# EAGLE library part USD-SOCKET-SPI (library TinWhiskers)
microSD Socket Push-push type uSD socket. Schematic element and footprint production proven. Spark Fun Electronics SKU : PRT-00127. tDoc lines correctly indicate media card edge positions when inserting (unlocked, locked, depressed).
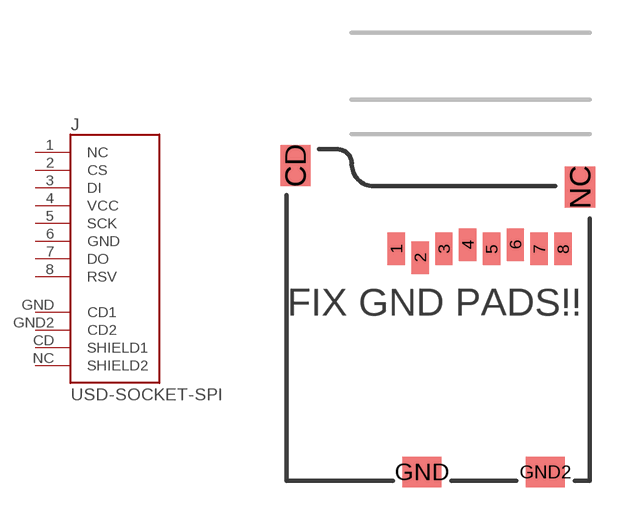
[diagram p12: symbol with the pads of MICRO-SD-SOCKET-PP; footprint MICRO-SD-SOCKET-PP]

Designator prefix J

## USD-SOCKET-SPISMD  [MICRO-SD-SOCKET-PP]
1  NC
2  CS
3  DI
4  VCC
5  SCK
6  GND
7  DO
8  RSV
CD  SHIELD1
GND  CD1
GND2  CD2
NC  SHIELD2

## Footprint MICRO-SD-SOCKET-PP (pad centres in mm)
Connector: MicroSD; Package: SMT; Mfr: 4UCon, Molex (47334); Datasheet: http://www.molex.com/pdm_docs/sd/473340001_sd.pdf; Datasheet: http://cdn.sparkfun.com/datasheets/Components/General/15882.pdf
smd 0.8 x 1.5: 1 -8.94,10.7; 2 -7.84,10.3; 3 -6.74,10.7; 4 -5.64,10.9; 5 -4.54,10.7; 6 -3.44,10.9; 7 -2.34,10.7; 8 -1.24,10.7
smd 1.4 x 1.9: CD -13.6,14.55; NC -0.45,13.55
smd 1.8 x 1.4: GND -7.75,0.4; GND2 -2.05,0.4